# EAGLE library part ATMEGA328P-MU (library Microcontroller)
IC MCU 8BIT 32KB FLASH 32VQFN Manufacturer's datasheet <http://ww1.microchip.com/downloads/en/DeviceDoc/ATmega48A-PA-88A-PA-168A-PA-328-P-DS-DS40002061A.pdf>
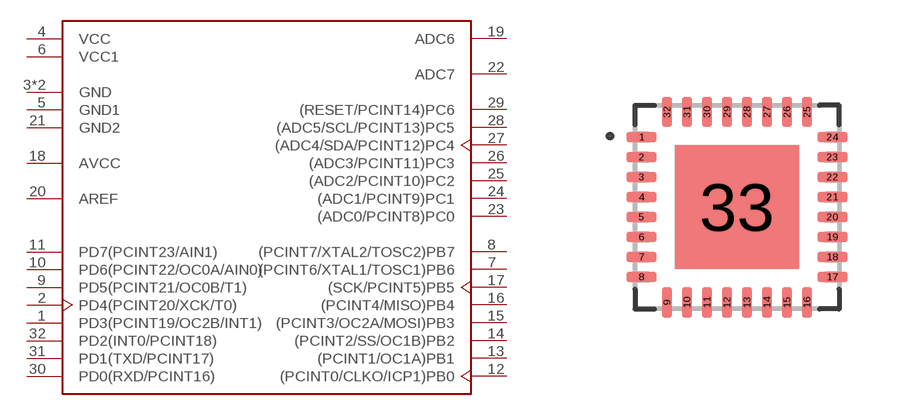
[diagram p16: symbol with the pads of VQFN-32; footprint VQFN-32]

Designator prefix U

## ATMEGA328P-MU (CREATED_BY: PCBLayout.com; DIGIKEY_PART_NUMBER: ATMEGA328P-MU-ND; MANUFACTURER: Microchip Technology; MPN: ATMEGA328P-MU; PACKAGE: VQFN-32)  [VQFN-32]
1  PD3(PCINT19/OC2B/INT1)
2  PD4(PCINT20/XCK/T0)
3  GND  pwr
4  VCC  pwr
5  GND1  pwr
6  VCC1  pwr
7  (PCINT6/XTAL1/TOSC1)PB6
8  (PCINT7/XTAL2/TOSC2)PB7
9  PD5(PCINT21/OC0B/T1)
10  PD6(PCINT22/OC0A/AIN0)
11  PD7(PCINT23/AIN1)
12  (PCINT0/CLKO/ICP1)PB0
13  (PCINT1/OC1A)PB1
14  (PCINT2/SS/OC1B)PB2
15  (PCINT3/OC2A/MOSI)PB3
16  (PCINT4/MISO)PB4
17  (SCK/PCINT5)PB5
18  AVCC  pwr
19  ADC6  in
20  AREF  pwr
21  GND2  pwr
22  ADC7  in
23  (ADC0/PCINT8)PC0
24  (ADC1/PCINT9)PC1
25  (ADC2/PCINT10)PC2
26  (ADC3/PCINT11)PC3
27  (ADC4/SDA/PCINT12)PC4
28  (ADC5/SCL/PCINT13)PC5
29  (RESET/PCINT14)PC6
30  PD0(RXD/PCINT16)
31  PD1(TXD/PCINT17)
32  PD2(INT0/PCINT18)
33  GND  pwr

## Footprint VQFN-32 (pad centres in mm)
smd 0.76 x 0.26: 1 -2.385,1.75; 2 -2.385,1.25; 3 -2.385,0.75; 4 -2.385,0.25; 5 -2.385,-0.25; 6 -2.385,-0.75; 7 -2.385,-1.25; 8 -2.385,-1.75; 17 2.385,-1.75; 18 2.385,-1.25; 19 2.385,-0.75; 20 2.385,-0.25; 21 2.385,0.25; 22 2.385,0.75; 23 2.385,1.25; 24 2.385,1.75
smd 0.26 x 0.76: 9 -1.75,-2.385; 10 -1.25,-2.385; 11 -0.75,-2.385; 12 -0.25,-2.385; 13 0.25,-2.385; 14 0.75,-2.385; 15 1.25,-2.385; 16 1.75,-2.385; 25 1.75,2.385; 26 1.25,2.385; 27 0.75,2.385; 28 0.25,2.385; 29 -0.25,2.385; 30 -0.75,2.385; 31 -1.25,2.385; 32 -1.75,2.385
smd 3.1 x 3.1: 33 0,0